# EAGLE library part LTC1535 (library 000001)
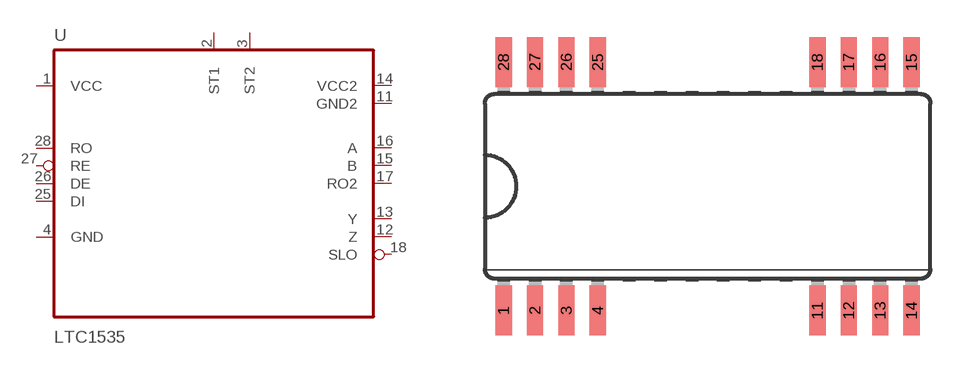
[diagram p78: symbol with the pads of SO28W_LTC; footprint SO28W_LTC]

Designator prefix -

## LTC1535CSW  [SO28W_LTC]
1  VCC  pwr
2  ST1
3  ST2
4  GND  pwr
11  GND2  pwr
12  Z
13  Y
14  VCC2  pwr
15  B
16  A
17  RO2
18  SLO
25  DI
26  DE
27  RE  in
28  RO

## Footprint SO28W_LTC (pad centres in mm)
smd 0.66 x 2.032: 1 -8.255,-5.029; 2 -6.985,-5.029; 3 -5.715,-5.029; 4 -4.445,-5.029; 11 4.445,-5.029; 12 5.715,-5.029; 13 6.985,-5.029; 14 8.255,-5.029; 15 8.255,5.029; 16 6.985,5.029; 17 5.715,5.029; 18 4.445,5.029; 25 -4.445,5.029; 26 -5.715,5.029; 27 -6.985,5.029; 28 -8.255,5.029